# Altium footprint library Connector_Phoenix_MSTB.PcbLib: 180 footprints (part 5 of 12)
Each footprint in its own frame and in the unit in brackets; x right, y up, seen from the top. Pads: shape width x height; smd on the part's side, far side on the other; paste and mask are expansions set on the pad; w line width, h text height; cw(c..) or ccw(c..) is an arc to the next point about the centre after c.
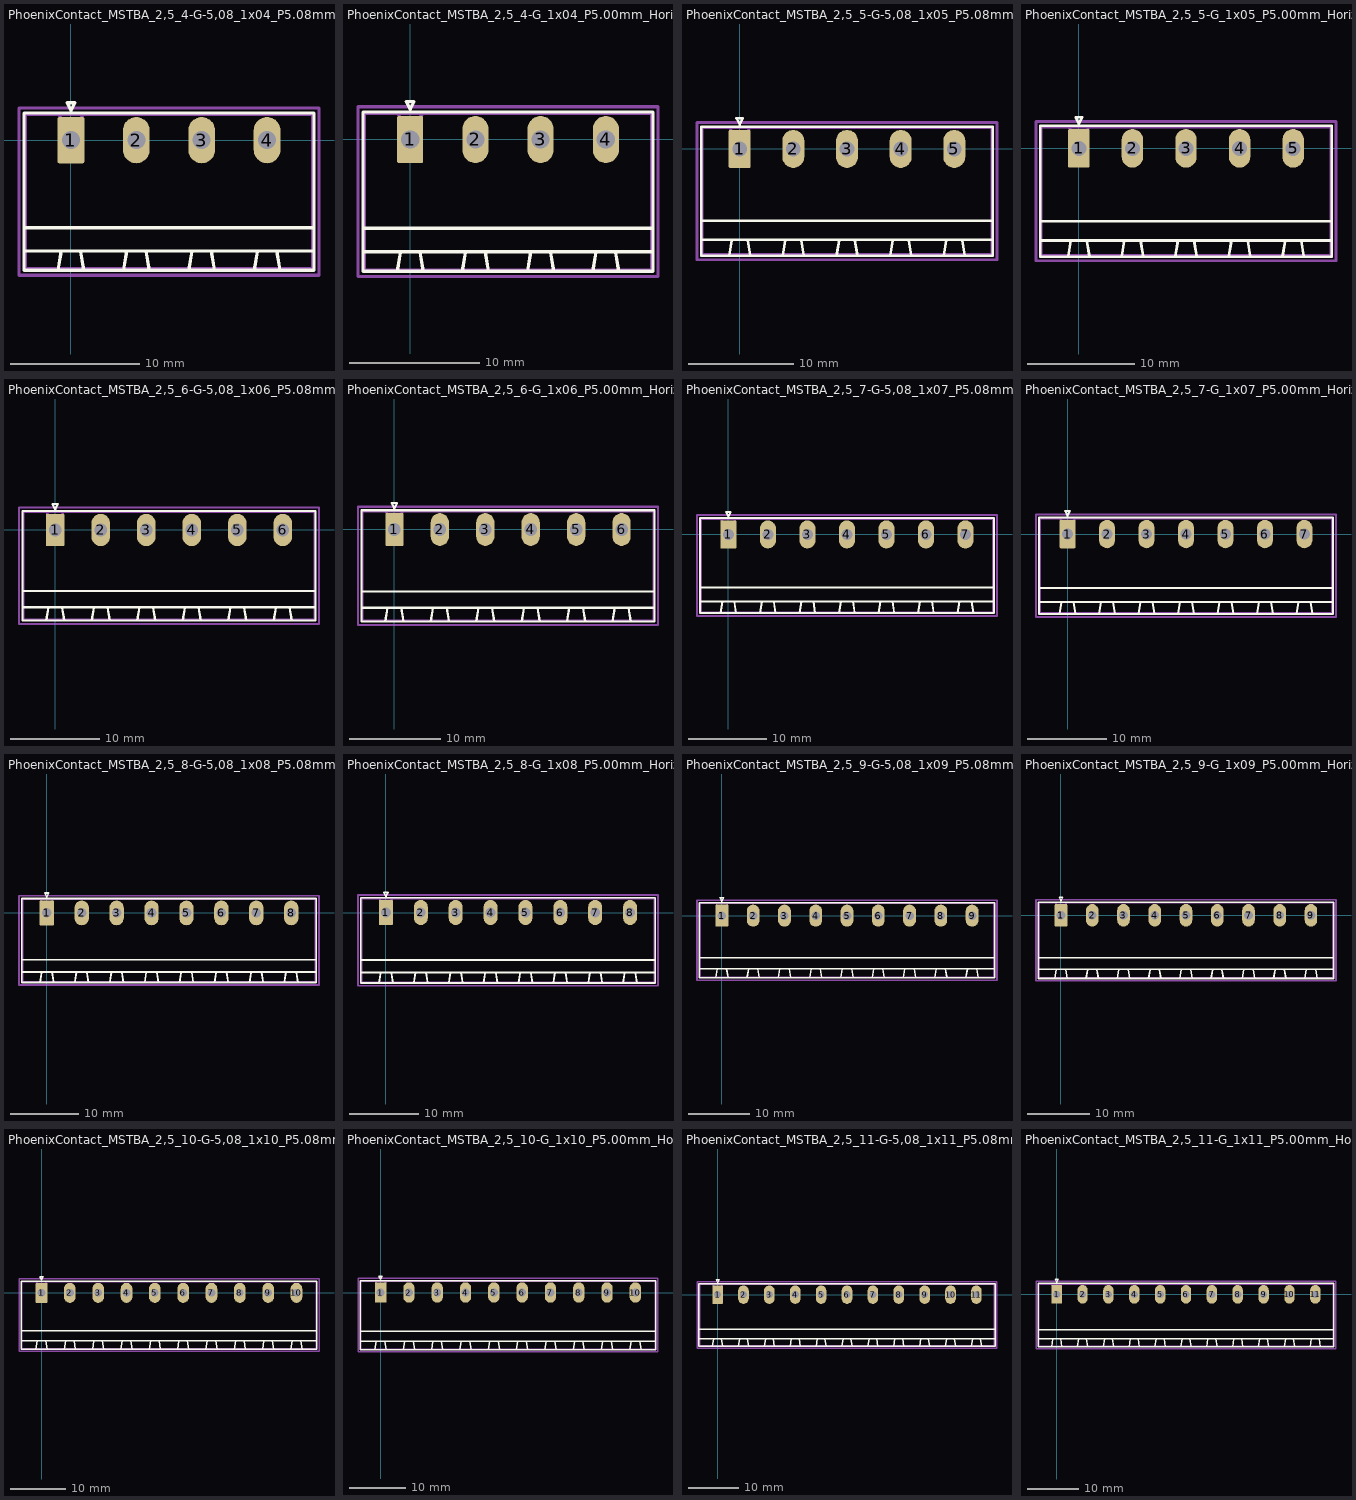
[diagram p4: the footprints below, top view; thin cyan lines are the x and y axes]

## PhoenixContact_MSTBA_2,5_4-G-5,08_1x04_P5.08mm_Horizontal [mm]
pads (4):
  rrect12% 2.08x3.6 hole 1.4: 1(0,0)
  rrect100% 2.08x3.6 hole 1.4: 2(5.08,0) 3(10.16,0) 4(15.24,0)
F.SilkS:
  lines w0.254: -3.65,-10.11 18.89,-10.11 18.89,2.11 -3.65,2.11 -3.65,-10.11 ; -3.65,-8.61 18.89,-8.61 18.89,-6.81 -3.65,-6.81 -3.65,-8.61 ; -1,-10.11 -0.75,-8.61 0.75,-8.61 1,-10.11 -1,-10.11 ; -0.3,2.91 0,2.31 0.3,2.91 -0.3,2.91 ; 4.08,-10.11 4.33,-8.61 5.83,-8.61 6.08,-10.11 4.08,-10.11 ; 9.16,-10.11 9.41,-8.61 10.91,-8.61 11.16,-10.11 9.16,-10.11 ; 14.24,-10.11 14.49,-8.61 15.99,-8.61 16.24,-10.11 14.24,-10.11
Top Assembly:
  lines w0.254: -0.95,2 0,0.5 0.95,2 ; -3.54,-10 18.78,-10 18.78,2 -3.54,2 -3.54,-10
  text "'.Designator'" at 3.573,0.46 h1
Top Courtyard:
  lines w0.254: -4.04,-10.5 19.28,-10.5 19.28,2.5 -4.04,2.5 -4.04,-10.5
Top Designator:
  text ".Designator" at 0.002,-4.303 h1.52

## PhoenixContact_MSTBA_2,5_4-G_1x04_P5.00mm_Horizontal [mm]
pads (4):
  rrect12% 2x3.6 hole 1.4: 1(0,0)
  rrect100% 2x3.6 hole 1.4: 2(5,0) 3(10,0) 4(15,0)
F.SilkS:
  lines w0.254: -3.61,-10.11 18.61,-10.11 18.61,2.11 -3.61,2.11 -3.61,-10.11 ; -3.61,-8.61 18.61,-8.61 18.61,-6.81 -3.61,-6.81 -3.61,-8.61 ; -1,-10.11 -0.75,-8.61 0.75,-8.61 1,-10.11 -1,-10.11 ; -0.3,2.91 0,2.31 0.3,2.91 -0.3,2.91 ; 4,-10.11 4.25,-8.61 5.75,-8.61 6,-10.11 4,-10.11 ; 9,-10.11 9.25,-8.61 10.75,-8.61 11,-10.11 9,-10.11 ; 14,-10.11 14.25,-8.61 15.75,-8.61 16,-10.11 14,-10.11
Top Assembly:
  lines w0.254: -0.95,2 0,0.5 0.95,2 ; -3.5,-10 18.5,-10 18.5,2 -3.5,2 -3.5,-10
  text "'.Designator'" at 3.453,0.46 h1
Top Courtyard:
  lines w0.254: -4,-10.5 19,-10.5 19,2.5 -4,2.5 -4,-10.5
Top Designator:
  text ".Designator" at -0.118,-4.303 h1.52

## PhoenixContact_MSTBA_2,5_5-G-5,08_1x05_P5.08mm_Horizontal [mm]
pads (5):
  rrect12% 2.08x3.6 hole 1.4: 1(0,0)
  rrect100% 2.08x3.6 hole 1.4: 2(5.08,0) 3(10.16,0) 4(15.24,0) 5(20.32,0)
F.SilkS:
  lines w0.254: -3.65,-10.11 23.97,-10.11 23.97,2.11 -3.65,2.11 -3.65,-10.11 ; -3.65,-8.61 23.97,-8.61 23.97,-6.81 -3.65,-6.81 -3.65,-8.61 ; -1,-10.11 -0.75,-8.61 0.75,-8.61 1,-10.11 -1,-10.11 ; -0.3,2.91 0,2.31 0.3,2.91 -0.3,2.91 ; 4.08,-10.11 4.33,-8.61 5.83,-8.61 6.08,-10.11 4.08,-10.11 ; 9.16,-10.11 9.41,-8.61 10.91,-8.61 11.16,-10.11 9.16,-10.11 ; 14.24,-10.11 14.49,-8.61 15.99,-8.61 16.24,-10.11 14.24,-10.11 ; 19.32,-10.11 19.57,-8.61 21.07,-8.61 21.32,-10.11 19.32,-10.11
Top Assembly:
  lines w0.254: -0.95,2 0,0.5 0.95,2 ; -3.54,-10 23.86,-10 23.86,2 -3.54,2 -3.54,-10
  text "'.Designator'" at 6.113,0.46 h1
Top Courtyard:
  lines w0.254: -4.04,-10.5 24.36,-10.5 24.36,2.5 -4.04,2.5 -4.04,-10.5
Top Designator:
  text ".Designator" at 2.542,-4.303 h1.52

## PhoenixContact_MSTBA_2,5_5-G_1x05_P5.00mm_Horizontal [mm]
pads (5):
  rrect12% 2x3.6 hole 1.4: 1(0,0)
  rrect100% 2x3.6 hole 1.4: 2(5,0) 3(10,0) 4(15,0) 5(20,0)
F.SilkS:
  lines w0.254: -3.61,-10.11 23.61,-10.11 23.61,2.11 -3.61,2.11 -3.61,-10.11 ; -3.61,-8.61 23.61,-8.61 23.61,-6.81 -3.61,-6.81 -3.61,-8.61 ; -1,-10.11 -0.75,-8.61 0.75,-8.61 1,-10.11 -1,-10.11 ; -0.3,2.91 0,2.31 0.3,2.91 -0.3,2.91 ; 4,-10.11 4.25,-8.61 5.75,-8.61 6,-10.11 4,-10.11 ; 9,-10.11 9.25,-8.61 10.75,-8.61 11,-10.11 9,-10.11 ; 14,-10.11 14.25,-8.61 15.75,-8.61 16,-10.11 14,-10.11 ; 19,-10.11 19.25,-8.61 20.75,-8.61 21,-10.11 19,-10.11
Top Assembly:
  lines w0.254: -0.95,2 0,0.5 0.95,2 ; -3.5,-10 23.5,-10 23.5,2 -3.5,2 -3.5,-10
  text "'.Designator'" at 5.953,0.46 h1
Top Courtyard:
  lines w0.254: -4,-10.5 24,-10.5 24,2.5 -4,2.5 -4,-10.5
Top Designator:
  text ".Designator" at 2.382,-4.303 h1.52

## PhoenixContact_MSTBA_2,5_6-G-5,08_1x06_P5.08mm_Horizontal [mm]
pads (6):
  rrect12% 2.08x3.6 hole 1.4: 1(0,0)
  rrect100% 2.08x3.6 hole 1.4: 2(5.08,0) 3(10.16,0) 4(15.24,0) 5(20.32,0) 6(25.4,0)
F.SilkS:
  lines w0.254: -3.65,-10.11 29.05,-10.11 29.05,2.11 -3.65,2.11 -3.65,-10.11 ; -3.65,-8.61 29.05,-8.61 29.05,-6.81 -3.65,-6.81 -3.65,-8.61 ; -1,-10.11 -0.75,-8.61 0.75,-8.61 1,-10.11 -1,-10.11 ; -0.3,2.91 0,2.31 0.3,2.91 -0.3,2.91 ; 4.08,-10.11 4.33,-8.61 5.83,-8.61 6.08,-10.11 4.08,-10.11 ; 9.16,-10.11 9.41,-8.61 10.91,-8.61 11.16,-10.11 9.16,-10.11 ; 14.24,-10.11 14.49,-8.61 15.99,-8.61 16.24,-10.11 14.24,-10.11 ; 19.32,-10.11 19.57,-8.61 21.07,-8.61 21.32,-10.11 19.32,-10.11 ; 24.4,-10.11 24.65,-8.61 26.15,-8.61 26.4,-10.11 24.4,-10.11
Top Assembly:
  lines w0.254: -0.95,2 0,0.5 0.95,2 ; -3.54,-10 28.94,-10 28.94,2 -3.54,2 -3.54,-10
  text "'.Designator'" at 8.653,0.46 h1
Top Courtyard:
  lines w0.254: -4.04,-10.5 29.44,-10.5 29.44,2.5 -4.04,2.5 -4.04,-10.5
Top Designator:
  text ".Designator" at 5.082,-4.303 h1.52

## PhoenixContact_MSTBA_2,5_6-G_1x06_P5.00mm_Horizontal [mm]
pads (6):
  rrect12% 2x3.6 hole 1.4: 1(0,0)
  rrect100% 2x3.6 hole 1.4: 2(5,0) 3(10,0) 4(15,0) 5(20,0) 6(25,0)
F.SilkS:
  lines w0.254: -3.61,-10.11 28.61,-10.11 28.61,2.11 -3.61,2.11 -3.61,-10.11 ; -3.61,-8.61 28.61,-8.61 28.61,-6.81 -3.61,-6.81 -3.61,-8.61 ; -1,-10.11 -0.75,-8.61 0.75,-8.61 1,-10.11 -1,-10.11 ; -0.3,2.91 0,2.31 0.3,2.91 -0.3,2.91 ; 4,-10.11 4.25,-8.61 5.75,-8.61 6,-10.11 4,-10.11 ; 9,-10.11 9.25,-8.61 10.75,-8.61 11,-10.11 9,-10.11 ; 14,-10.11 14.25,-8.61 15.75,-8.61 16,-10.11 14,-10.11 ; 19,-10.11 19.25,-8.61 20.75,-8.61 21,-10.11 19,-10.11 ; 24,-10.11 24.25,-8.61 25.75,-8.61 26,-10.11 24,-10.11
Top Assembly:
  lines w0.254: -0.95,2 0,0.5 0.95,2 ; -3.5,-10 28.5,-10 28.5,2 -3.5,2 -3.5,-10
  text "'.Designator'" at 8.453,0.46 h1
Top Courtyard:
  lines w0.254: -4,-10.5 29,-10.5 29,2.5 -4,2.5 -4,-10.5
Top Designator:
  text ".Designator" at 4.882,-4.303 h1.52

## PhoenixContact_MSTBA_2,5_7-G-5,08_1x07_P5.08mm_Horizontal [mm]
pads (7):
  rrect12% 2.08x3.6 hole 1.4: 1(0,0)
  rrect100% 2.08x3.6 hole 1.4: 2(5.08,0) 3(10.16,0) 4(15.24,0) 5(20.32,0) 6(25.4,0) 7(30.48,0)
F.SilkS:
  lines w0.254: -3.65,-10.11 34.13,-10.11 34.13,2.11 -3.65,2.11 -3.65,-10.11 ; -3.65,-8.61 34.13,-8.61 34.13,-6.81 -3.65,-6.81 -3.65,-8.61 ; -1,-10.11 -0.75,-8.61 0.75,-8.61 1,-10.11 -1,-10.11 ; -0.3,2.91 0,2.31 0.3,2.91 -0.3,2.91 ; 4.08,-10.11 4.33,-8.61 5.83,-8.61 6.08,-10.11 4.08,-10.11 ; 9.16,-10.11 9.41,-8.61 10.91,-8.61 11.16,-10.11 9.16,-10.11 ; 14.24,-10.11 14.49,-8.61 15.99,-8.61 16.24,-10.11 14.24,-10.11 ; 19.32,-10.11 19.57,-8.61 21.07,-8.61 21.32,-10.11 19.32,-10.11 ; 24.4,-10.11 24.65,-8.61 26.15,-8.61 26.4,-10.11 24.4,-10.11 ; 29.48,-10.11 29.73,-8.61 31.23,-8.61 31.48,-10.11 29.48,-10.11
Top Assembly:
  lines w0.254: -0.95,2 0,0.5 0.95,2 ; -3.54,-10 34.02,-10 34.02,2 -3.54,2 -3.54,-10
  text "'.Designator'" at 11.193,0.46 h1
Top Courtyard:
  lines w0.254: -4.04,-10.5 34.53,-10.5 34.53,2.5 -4.04,2.5 -4.04,-10.5
Top Designator:
  text ".Designator" at 7.627,-4.303 h1.52

## PhoenixContact_MSTBA_2,5_7-G_1x07_P5.00mm_Horizontal [mm]
pads (7):
  rrect12% 2x3.6 hole 1.4: 1(0,0)
  rrect100% 2x3.6 hole 1.4: 2(5,0) 3(10,0) 4(15,0) 5(20,0) 6(25,0) 7(30,0)
F.SilkS:
  lines w0.254: -3.61,-10.11 33.61,-10.11 33.61,2.11 -3.61,2.11 -3.61,-10.11 ; -3.61,-8.61 33.61,-8.61 33.61,-6.81 -3.61,-6.81 -3.61,-8.61 ; -1,-10.11 -0.75,-8.61 0.75,-8.61 1,-10.11 -1,-10.11 ; -0.3,2.91 0,2.31 0.3,2.91 -0.3,2.91 ; 4,-10.11 4.25,-8.61 5.75,-8.61 6,-10.11 4,-10.11 ; 9,-10.11 9.25,-8.61 10.75,-8.61 11,-10.11 9,-10.11 ; 14,-10.11 14.25,-8.61 15.75,-8.61 16,-10.11 14,-10.11 ; 19,-10.11 19.25,-8.61 20.75,-8.61 21,-10.11 19,-10.11 ; 24,-10.11 24.25,-8.61 25.75,-8.61 26,-10.11 24,-10.11 ; 29,-10.11 29.25,-8.61 30.75,-8.61 31,-10.11 29,-10.11
Top Assembly:
  lines w0.254: -0.95,2 0,0.5 0.95,2 ; -3.5,-10 33.5,-10 33.5,2 -3.5,2 -3.5,-10
  text "'.Designator'" at 10.953,0.46 h1
Top Courtyard:
  lines w0.254: -4,-10.5 34,-10.5 34,2.5 -4,2.5 -4,-10.5
Top Designator:
  text ".Designator" at 7.382,-4.303 h1.52

## PhoenixContact_MSTBA_2,5_8-G-5,08_1x08_P5.08mm_Horizontal [mm]
pads (8):
  rrect12% 2.08x3.6 hole 1.4: 1(0,0)
  rrect100% 2.08x3.6 hole 1.4: 2(5.08,0) 3(10.16,0) 4(15.24,0) 5(20.32,0) 6(25.4,0) 7(30.48,0) 8(35.56,0)
F.SilkS:
  lines w0.254: -3.65,-10.11 39.21,-10.11 39.21,2.11 -3.65,2.11 -3.65,-10.11 ; -3.65,-8.61 39.21,-8.61 39.21,-6.81 -3.65,-6.81 -3.65,-8.61 ; -1,-10.11 -0.75,-8.61 0.75,-8.61 1,-10.11 -1,-10.11 ; -0.3,2.91 0,2.31 0.3,2.91 -0.3,2.91 ; 4.08,-10.11 4.33,-8.61 5.83,-8.61 6.08,-10.11 4.08,-10.11 ; 9.16,-10.11 9.41,-8.61 10.91,-8.61 11.16,-10.11 9.16,-10.11 ; 14.24,-10.11 14.49,-8.61 15.99,-8.61 16.24,-10.11 14.24,-10.11 ; 19.32,-10.11 19.57,-8.61 21.07,-8.61 21.32,-10.11 19.32,-10.11 ; 24.4,-10.11 24.65,-8.61 26.15,-8.61 26.4,-10.11 24.4,-10.11 ; 29.48,-10.11 29.73,-8.61 31.23,-8.61 31.48,-10.11 29.48,-10.11 ; 34.56,-10.11 34.81,-8.61 36.31,-8.61 36.56,-10.11 34.56,-10.11
Top Assembly:
  lines w0.254: -0.95,2 0,0.5 0.95,2 ; -3.54,-10 39.1,-10 39.1,2 -3.54,2 -3.54,-10
  text "'.Designator'" at 13.733,0.46 h1
Top Courtyard:
  lines w0.254: -4.04,-10.5 39.6,-10.5 39.6,2.5 -4.04,2.5 -4.04,-10.5
Top Designator:
  text ".Designator" at 10.162,-4.303 h1.52

## PhoenixContact_MSTBA_2,5_8-G_1x08_P5.00mm_Horizontal [mm]
pads (8):
  rrect12% 2x3.6 hole 1.4: 1(0,0)
  rrect100% 2x3.6 hole 1.4: 2(5,0) 3(10,0) 4(15,0) 5(20,0) 6(25,0) 7(30,0) 8(35,0)
F.SilkS:
  lines w0.254: -3.61,-10.11 38.61,-10.11 38.61,2.11 -3.61,2.11 -3.61,-10.11 ; -3.61,-8.61 38.61,-8.61 38.61,-6.81 -3.61,-6.81 -3.61,-8.61 ; -1,-10.11 -0.75,-8.61 0.75,-8.61 1,-10.11 -1,-10.11 ; -0.3,2.91 0,2.31 0.3,2.91 -0.3,2.91 ; 4,-10.11 4.25,-8.61 5.75,-8.61 6,-10.11 4,-10.11 ; 9,-10.11 9.25,-8.61 10.75,-8.61 11,-10.11 9,-10.11 ; 14,-10.11 14.25,-8.61 15.75,-8.61 16,-10.11 14,-10.11 ; 19,-10.11 19.25,-8.61 20.75,-8.61 21,-10.11 19,-10.11 ; 24,-10.11 24.25,-8.61 25.75,-8.61 26,-10.11 24,-10.11 ; 29,-10.11 29.25,-8.61 30.75,-8.61 31,-10.11 29,-10.11 ; 34,-10.11 34.25,-8.61 35.75,-8.61 36,-10.11 34,-10.11
Top Assembly:
  lines w0.254: -0.95,2 0,0.5 0.95,2 ; -3.5,-10 38.5,-10 38.5,2 -3.5,2 -3.5,-10
  text "'.Designator'" at 13.453,0.46 h1
Top Courtyard:
  lines w0.254: -4,-10.5 39,-10.5 39,2.5 -4,2.5 -4,-10.5
Top Designator:
  text ".Designator" at 9.882,-4.303 h1.52

## PhoenixContact_MSTBA_2,5_9-G-5,08_1x09_P5.08mm_Horizontal [mm]
pads (9):
  rrect12% 2.08x3.6 hole 1.4: 1(0,0)
  rrect100% 2.08x3.6 hole 1.4: 2(5.08,0) 3(10.16,0) 4(15.24,0) 5(20.32,0) 6(25.4,0) 7(30.48,0) 8(35.56,0) 9(40.64,0)
F.SilkS:
  lines w0.254: -3.65,-10.11 44.29,-10.11 44.29,2.11 -3.65,2.11 -3.65,-10.11 ; -3.65,-8.61 44.29,-8.61 44.29,-6.81 -3.65,-6.81 -3.65,-8.61 ; -1,-10.11 -0.75,-8.61 0.75,-8.61 1,-10.11 -1,-10.11 ; -0.3,2.91 0,2.31 0.3,2.91 -0.3,2.91 ; 4.08,-10.11 4.33,-8.61 5.83,-8.61 6.08,-10.11 4.08,-10.11 ; 9.16,-10.11 9.41,-8.61 10.91,-8.61 11.16,-10.11 9.16,-10.11 ; 14.24,-10.11 14.49,-8.61 15.99,-8.61 16.24,-10.11 14.24,-10.11 ; 19.32,-10.11 19.57,-8.61 21.07,-8.61 21.32,-10.11 19.32,-10.11 ; 24.4,-10.11 24.65,-8.61 26.15,-8.61 26.4,-10.11 24.4,-10.11 ; 29.48,-10.11 29.73,-8.61 31.23,-8.61 31.48,-10.11 29.48,-10.11 ; 34.56,-10.11 34.81,-8.61 36.31,-8.61 36.56,-10.11 34.56,-10.11 ; 39.64,-10.11 39.89,-8.61 41.39,-8.61 41.64,-10.11 39.64,-10.11
Top Assembly:
  lines w0.254: -0.95,2 0,0.5 0.95,2 ; -3.54,-10 44.18,-10 44.18,2 -3.54,2 -3.54,-10
  text "'.Designator'" at 16.273,0.46 h1
Top Courtyard:
  lines w0.254: -4.04,-10.5 44.68,-10.5 44.68,2.5 -4.04,2.5 -4.04,-10.5
Top Designator:
  text ".Designator" at 12.702,-4.303 h1.52

## PhoenixContact_MSTBA_2,5_9-G_1x09_P5.00mm_Horizontal [mm]
pads (9):
  rrect12% 2x3.6 hole 1.4: 1(0,0)
  rrect100% 2x3.6 hole 1.4: 2(5,0) 3(10,0) 4(15,0) 5(20,0) 6(25,0) 7(30,0) 8(35,0) 9(40,0)
F.SilkS:
  lines w0.254: -3.61,-10.11 43.61,-10.11 43.61,2.11 -3.61,2.11 -3.61,-10.11 ; -3.61,-8.61 43.61,-8.61 43.61,-6.81 -3.61,-6.81 -3.61,-8.61 ; -1,-10.11 -0.75,-8.61 0.75,-8.61 1,-10.11 -1,-10.11 ; -0.3,2.91 0,2.31 0.3,2.91 -0.3,2.91 ; 4,-10.11 4.25,-8.61 5.75,-8.61 6,-10.11 4,-10.11 ; 9,-10.11 9.25,-8.61 10.75,-8.61 11,-10.11 9,-10.11 ; 14,-10.11 14.25,-8.61 15.75,-8.61 16,-10.11 14,-10.11 ; 19,-10.11 19.25,-8.61 20.75,-8.61 21,-10.11 19,-10.11 ; 24,-10.11 24.25,-8.61 25.75,-8.61 26,-10.11 24,-10.11 ; 29,-10.11 29.25,-8.61 30.75,-8.61 31,-10.11 29,-10.11 ; 34,-10.11 34.25,-8.61 35.75,-8.61 36,-10.11 34,-10.11 ; 39,-10.11 39.25,-8.61 40.75,-8.61 41,-10.11 39,-10.11
Top Assembly:
  lines w0.254: -0.95,2 0,0.5 0.95,2 ; -3.5,-10 43.5,-10 43.5,2 -3.5,2 -3.5,-10
  text "'.Designator'" at 15.953,0.46 h1
Top Courtyard:
  lines w0.254: -4,-10.5 44,-10.5 44,2.5 -4,2.5 -4,-10.5
Top Designator:
  text ".Designator" at 12.382,-4.303 h1.52

## PhoenixContact_MSTBA_2,5_10-G-5,08_1x10_P5.08mm_Horizontal [mm]
pads (10):
  rrect12% 2.08x3.6 hole 1.4: 1(0,0)
  rrect100% 2.08x3.6 hole 1.4: 2(5.08,0) 3(10.16,0) 4(15.24,0) 5(20.32,0) 6(25.4,0) 7(30.48,0) 8(35.56,0) 9(40.64,0) 10(45.72,0)
F.SilkS:
  lines w0.254: -3.65,-10.11 49.37,-10.11 49.37,2.11 -3.65,2.11 -3.65,-10.11 ; -3.65,-8.61 49.37,-8.61 49.37,-6.81 -3.65,-6.81 -3.65,-8.61 ; -1,-10.11 -0.75,-8.61 0.75,-8.61 1,-10.11 -1,-10.11 ; -0.3,2.91 0,2.31 0.3,2.91 -0.3,2.91 ; 4.08,-10.11 4.33,-8.61 5.83,-8.61 6.08,-10.11 4.08,-10.11 ; 9.16,-10.11 9.41,-8.61 10.91,-8.61 11.16,-10.11 9.16,-10.11 ; 14.24,-10.11 14.49,-8.61 15.99,-8.61 16.24,-10.11 14.24,-10.11 ; 19.32,-10.11 19.57,-8.61 21.07,-8.61 21.32,-10.11 19.32,-10.11 ; 24.4,-10.11 24.65,-8.61 26.15,-8.61 26.4,-10.11 24.4,-10.11 ; 29.48,-10.11 29.73,-8.61 31.23,-8.61 31.48,-10.11 29.48,-10.11 ; 34.56,-10.11 34.81,-8.61 36.31,-8.61 36.56,-10.11 34.56,-10.11 ; 39.64,-10.11 39.89,-8.61 41.39,-8.61 41.64,-10.11 39.64,-10.11 ; 44.72,-10.11 44.97,-8.61 46.47,-8.61 46.72,-10.11 44.72,-10.11
Top Assembly:
  lines w0.254: -0.95,2 0,0.5 0.95,2 ; -3.54,-10 49.26,-10 49.26,2 -3.54,2 -3.54,-10
  text "'.Designator'" at 18.813,0.46 h1
Top Courtyard:
  lines w0.254: -4.04,-10.5 49.76,-10.5 49.76,2.5 -4.04,2.5 -4.04,-10.5
Top Designator:
  text ".Designator" at 15.242,-4.303 h1.52

## PhoenixContact_MSTBA_2,5_10-G_1x10_P5.00mm_Horizontal [mm]
pads (10):
  rrect12% 2x3.6 hole 1.4: 1(0,0)
  rrect100% 2x3.6 hole 1.4: 2(5,0) 3(10,0) 4(15,0) 5(20,0) 6(25,0) 7(30,0) 8(35,0) 9(40,0) 10(45,0)
F.SilkS:
  lines w0.254: -3.61,-10.11 48.61,-10.11 48.61,2.11 -3.61,2.11 -3.61,-10.11 ; -3.61,-8.61 48.61,-8.61 48.61,-6.81 -3.61,-6.81 -3.61,-8.61 ; -1,-10.11 -0.75,-8.61 0.75,-8.61 1,-10.11 -1,-10.11 ; -0.3,2.91 0,2.31 0.3,2.91 -0.3,2.91 ; 4,-10.11 4.25,-8.61 5.75,-8.61 6,-10.11 4,-10.11 ; 9,-10.11 9.25,-8.61 10.75,-8.61 11,-10.11 9,-10.11 ; 14,-10.11 14.25,-8.61 15.75,-8.61 16,-10.11 14,-10.11 ; 19,-10.11 19.25,-8.61 20.75,-8.61 21,-10.11 19,-10.11 ; 24,-10.11 24.25,-8.61 25.75,-8.61 26,-10.11 24,-10.11 ; 29,-10.11 29.25,-8.61 30.75,-8.61 31,-10.11 29,-10.11 ; 34,-10.11 34.25,-8.61 35.75,-8.61 36,-10.11 34,-10.11 ; 39,-10.11 39.25,-8.61 40.75,-8.61 41,-10.11 39,-10.11 ; 44,-10.11 44.25,-8.61 45.75,-8.61 46,-10.11 44,-10.11
Top Assembly:
  lines w0.254: -0.95,2 0,0.5 0.95,2 ; -3.5,-10 48.5,-10 48.5,2 -3.5,2 -3.5,-10
  text "'.Designator'" at 18.453,0.46 h1
Top Courtyard:
  lines w0.254: -4,-10.5 49,-10.5 49,2.5 -4,2.5 -4,-10.5
Top Designator:
  text ".Designator" at 14.882,-4.303 h1.52

## PhoenixContact_MSTBA_2,5_11-G-5,08_1x11_P5.08mm_Horizontal [mm]
pads (11):
  rrect12% 2.08x3.6 hole 1.4: 1(0,0)
  rrect100% 2.08x3.6 hole 1.4: 2(5.08,0) 3(10.16,0) 4(15.24,0) 5(20.32,0) 6(25.4,0) 7(30.48,0) 8(35.56,0) 9(40.64,0) 10(45.72,0) 11(50.8,0)
F.SilkS:
  lines w0.254: -3.65,-10.11 54.45,-10.11 54.45,2.11 -3.65,2.11 -3.65,-10.11 ; -3.65,-8.61 54.45,-8.61 54.45,-6.81 -3.65,-6.81 -3.65,-8.61 ; -1,-10.11 -0.75,-8.61 0.75,-8.61 1,-10.11 -1,-10.11 ; -0.3,2.91 0,2.31 0.3,2.91 -0.3,2.91 ; 4.08,-10.11 4.33,-8.61 5.83,-8.61 6.08,-10.11 4.08,-10.11 ; 9.16,-10.11 9.41,-8.61 10.91,-8.61 11.16,-10.11 9.16,-10.11 ; 14.24,-10.11 14.49,-8.61 15.99,-8.61 16.24,-10.11 14.24,-10.11 ; 19.32,-10.11 19.57,-8.61 21.07,-8.61 21.32,-10.11 19.32,-10.11 ; 24.4,-10.11 24.65,-8.61 26.15,-8.61 26.4,-10.11 24.4,-10.11 ; 29.48,-10.11 29.73,-8.61 31.23,-8.61 31.48,-10.11 29.48,-10.11 ; 34.56,-10.11 34.81,-8.61 36.31,-8.61 36.56,-10.11 34.56,-10.11 ; 39.64,-10.11 39.89,-8.61 41.39,-8.61 41.64,-10.11 39.64,-10.11 ; 44.72,-10.11 44.97,-8.61 46.47,-8.61 46.72,-10.11 44.72,-10.11 ; 49.8,-10.11 50.05,-8.61 51.55,-8.61 51.8,-10.11 49.8,-10.11
Top Assembly:
  lines w0.254: -0.95,2 0,0.5 0.95,2 ; -3.54,-10 54.34,-10 54.34,2 -3.54,2 -3.54,-10
  text "'.Designator'" at 21.353,0.46 h1
Top Courtyard:
  lines w0.254: -4.04,-10.5 54.84,-10.5 54.84,2.5 -4.04,2.5 -4.04,-10.5
Top Designator:
  text ".Designator" at 17.782,-4.303 h1.52

## PhoenixContact_MSTBA_2,5_11-G_1x11_P5.00mm_Horizontal [mm]
pads (11):
  rrect12% 2x3.6 hole 1.4: 1(0,0)
  rrect100% 2x3.6 hole 1.4: 2(5,0) 3(10,0) 4(15,0) 5(20,0) 6(25,0) 7(30,0) 8(35,0) 9(40,0) 10(45,0) 11(50,0)
F.SilkS:
  lines w0.254: -3.61,-10.11 53.61,-10.11 53.61,2.11 -3.61,2.11 -3.61,-10.11 ; -3.61,-8.61 53.61,-8.61 53.61,-6.81 -3.61,-6.81 -3.61,-8.61 ; -1,-10.11 -0.75,-8.61 0.75,-8.61 1,-10.11 -1,-10.11 ; -0.3,2.91 0,2.31 0.3,2.91 -0.3,2.91 ; 4,-10.11 4.25,-8.61 5.75,-8.61 6,-10.11 4,-10.11 ; 9,-10.11 9.25,-8.61 10.75,-8.61 11,-10.11 9,-10.11 ; 14,-10.11 14.25,-8.61 15.75,-8.61 16,-10.11 14,-10.11 ; 19,-10.11 19.25,-8.61 20.75,-8.61 21,-10.11 19,-10.11 ; 24,-10.11 24.25,-8.61 25.75,-8.61 26,-10.11 24,-10.11 ; 29,-10.11 29.25,-8.61 30.75,-8.61 31,-10.11 29,-10.11 ; 34,-10.11 34.25,-8.61 35.75,-8.61 36,-10.11 34,-10.11 ; 39,-10.11 39.25,-8.61 40.75,-8.61 41,-10.11 39,-10.11 ; 44,-10.11 44.25,-8.61 45.75,-8.61 46,-10.11 44,-10.11 ; 49,-10.11 49.25,-8.61 50.75,-8.61 51,-10.11 49,-10.11
Top Assembly:
  lines w0.254: -0.95,2 0,0.5 0.95,2 ; -3.5,-10 53.5,-10 53.5,2 -3.5,2 -3.5,-10
  text "'.Designator'" at 20.953,0.46 h1
Top Courtyard:
  lines w0.254: -4,-10.5 54,-10.5 54,2.5 -4,2.5 -4,-10.5
Top Designator:
  text ".Designator" at 17.382,-4.303 h1.52